# Altium footprint library MyLibrary.PcbLib: 365 footprints (part 22 of 23)
Each footprint in its own frame and in the unit in brackets; x right, y up, seen from the top. Pads: shape width x height; smd on the part's side, far side on the other; paste and mask are expansions set on the pad; w line width, h text height; cw(c..) or ccw(c..) is an arc to the next point about the centre after c.
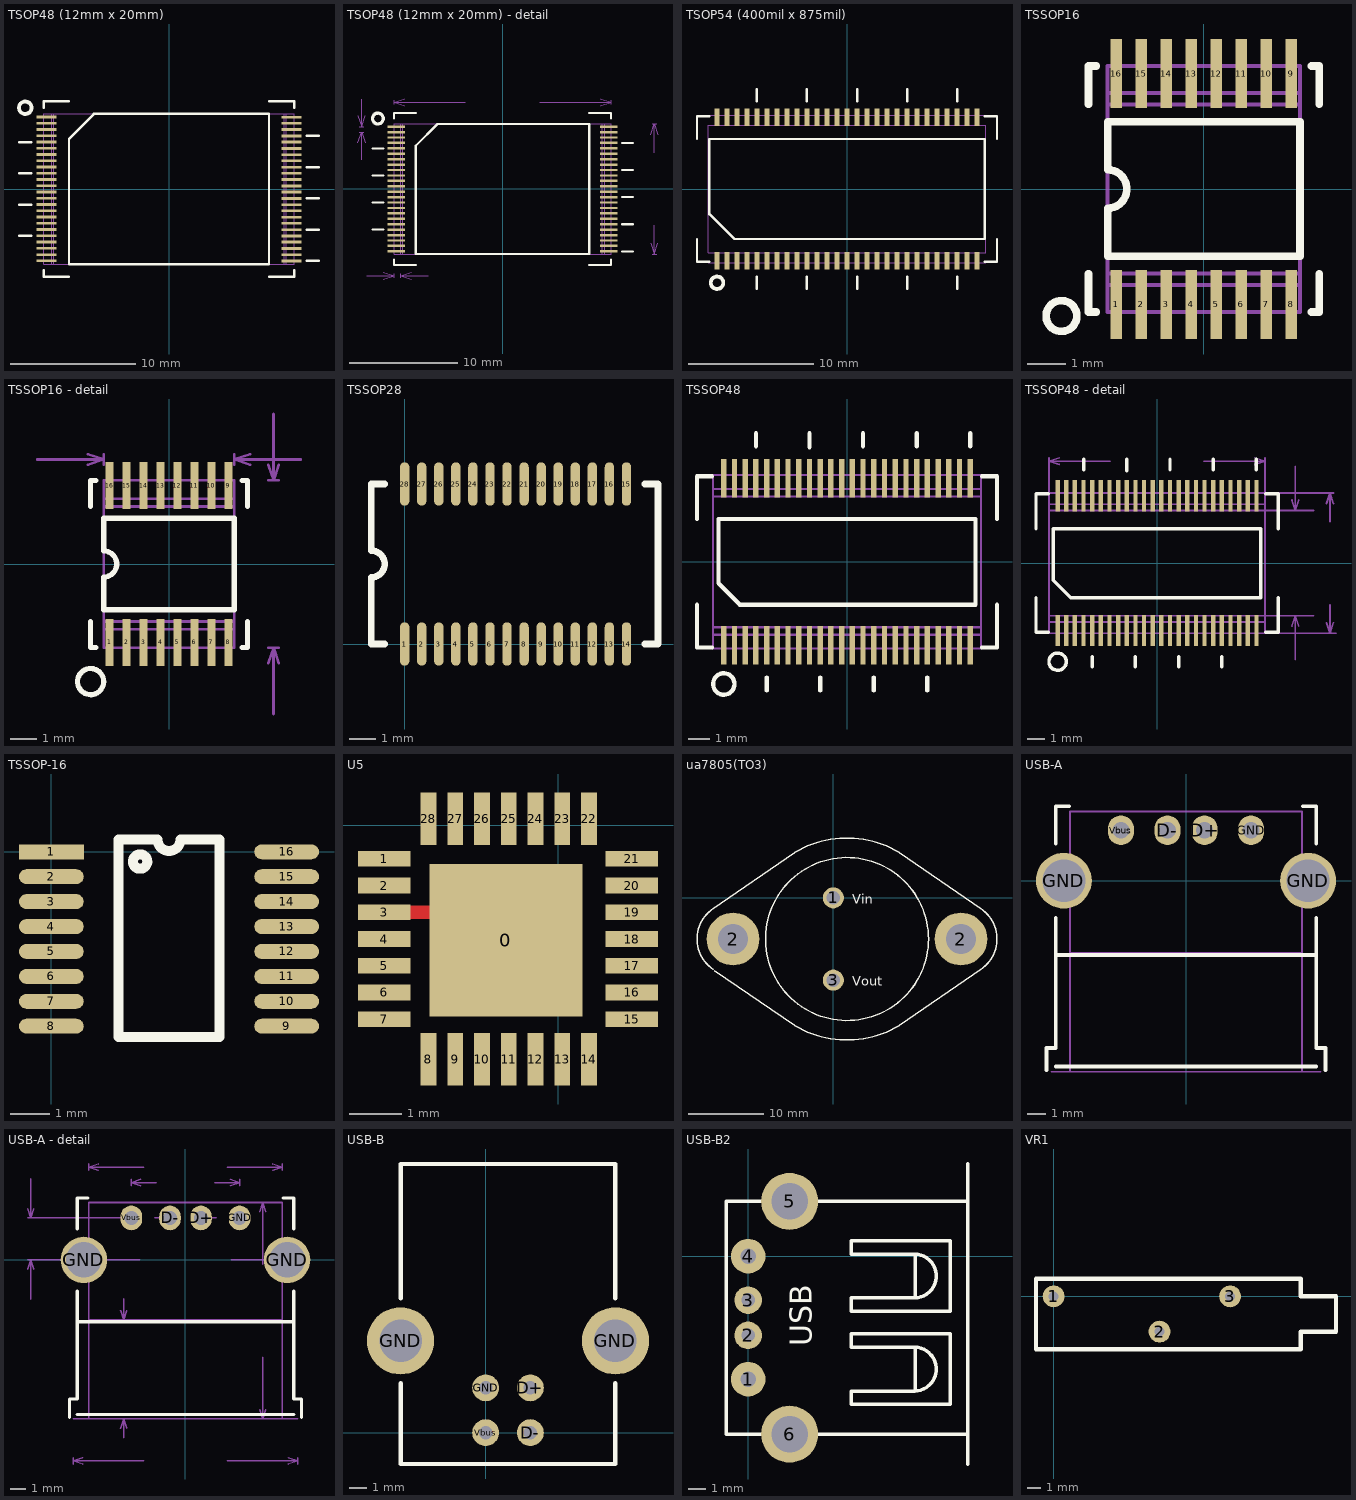
[diagram p21: the footprints below, top view; thin cyan lines are the x and y axes]

## TSOP48 (12mm x 20mm) [mm]
pads (48):
  rect 1.6x0.22 smd: 1(-9.8,5.75) 2(-9.8,5.25) 3(-9.8,4.75) 4(-9.8,4.25) 5(-9.8,3.75) 6(-9.8,3.25) 7(-9.8,2.75) 8(-9.8,2.25) 9(-9.8,1.75) 10(-9.8,1.25) 11(-9.8,0.75) 12(-9.8,0.25) 13(-9.8,-0.25) 14(-9.8,-0.75) 15(-9.8,-1.25) 16(-9.8,-1.75) 17(-9.8,-2.25) 18(-9.8,-2.75) 19(-9.8,-3.25) 20(-9.8,-3.75) 21(-9.8,-4.25) 22(-9.8,-4.75) 23(-9.8,-5.25) 24(-9.8,-5.75) 25(9.8,-5.75) 26(9.8,-5.25) 27(9.8,-4.75) 28(9.8,-4.25) 29(9.8,-3.75) 30(9.8,-3.25) 31(9.8,-2.75) 32(9.8,-2.25) 33(9.8,-1.75) 34(9.8,-1.25) 35(9.8,-0.75) 36(9.8,-0.25) 37(9.8,0.25) 38(9.8,0.75) 39(9.8,1.25) 40(9.8,1.75) 41(9.8,2.25) 42(9.8,2.75) 43(9.8,3.25) 44(9.8,3.75) 45(9.8,4.25) 46(9.8,4.75) 47(9.8,5.25) 48(9.8,5.75)
Top Overlay:
  circle w0.3: c-11.5,6.5 r0.5
  lines w0.2: -12,-3.75 -11,-3.75 ; -12,-1.25 -11,-1.25 ; -12,1.25 -11,1.25 ; -12,3.75 -11,3.75 ; -10,-6.5 -10,-7 -8,-7 ; -10,6.5 -10,7 -8,7 ; 8,-7 10,-7 10,-6.5 ; 8,7 10,7 10,6.5 ; 11,-5.75 12,-5.75 ; 11,-3.25 12,-3.25 ; 11,-0.75 12,-0.75 ; 11,1.75 12,1.75 ; 11,4.25 12,4.25 ; -8,4 -8,-6 8,-6 8,6 -6,6 -8,4 ; -8,4 -8,4
Mechanical 1:
  lines w0.1: -9.4,-6 -9.4,6 ; -9.2,-6 -9.2,6 ; 9.2,-6 9.2,6 ; 9.4,-6 9.4,6 ; -10,-6 -10,6 10,6 10,-6 -10,-6

## TSOP48 (12mm x 20mm) - detail [mm]
pads (48):
  rect 1.6x0.22 smd: 1(-9.8,5.75) 2(-9.8,5.25) 3(-9.8,4.75) 4(-9.8,4.25) 5(-9.8,3.75) 6(-9.8,3.25) 7(-9.8,2.75) 8(-9.8,2.25) 9(-9.8,1.75) 10(-9.8,1.25) 11(-9.8,0.75) 12(-9.8,0.25) 13(-9.8,-0.25) 14(-9.8,-0.75) 15(-9.8,-1.25) 16(-9.8,-1.75) 17(-9.8,-2.25) 18(-9.8,-2.75) 19(-9.8,-3.25) 20(-9.8,-3.75) 21(-9.8,-4.25) 22(-9.8,-4.75) 23(-9.8,-5.25) 24(-9.8,-5.75) 25(9.8,-5.75) 26(9.8,-5.25) 27(9.8,-4.75) 28(9.8,-4.25) 29(9.8,-3.75) 30(9.8,-3.25) 31(9.8,-2.75) 32(9.8,-2.25) 33(9.8,-1.75) 34(9.8,-1.25) 35(9.8,-0.75) 36(9.8,-0.25) 37(9.8,0.25) 38(9.8,0.75) 39(9.8,1.25) 40(9.8,1.75) 41(9.8,2.25) 42(9.8,2.75) 43(9.8,3.25) 44(9.8,3.75) 45(9.8,4.25) 46(9.8,4.75) 47(9.8,5.25) 48(9.8,5.75)
Top Overlay:
  circle w0.3: c-11.5,6.5 r0.5
  lines w0.2: -12,-3.75 -11,-3.75 ; -12,-1.25 -11,-1.25 ; -12,1.25 -11,1.25 ; -12,3.75 -11,3.75 ; -10,-6.5 -10,-7 -8,-7 ; -10,6.5 -10,7 -8,7 ; 8,-7 10,-7 10,-6.5 ; 8,7 10,7 10,6.5 ; 11,-5.75 12,-5.75 ; 11,-3.25 12,-3.25 ; 11,-0.75 12,-0.75 ; 11,1.75 12,1.75 ; 11,4.25 12,4.25 ; -8,4 -6,6 8,6 8,-6 -8,-6 -8,4 ; -8,4 -8,4
Mechanical 1:
  lines w0.1: -13.333,4.25 -13,5.25 ; -13.333,6.75 -13,5.75 ; -13.2,5.25 -12.8,5.25 ; -13.2,5.75 -12.8,5.75 ; -13,2.71 -13,5.25 ; -13,8.29 -13,5.75 ; -12.667,4.25 -13,5.25 ; -12.667,6.75 -13,5.75 ; -12.54,-8 -10,-8 ; -11,-8.333 -10,-8 ; -11,-7.667 -10,-8 ; -10,-8.2 -10,-7.8 ; -10,7.8 -10,8.2 ; -9.4,-8.2 -9.4,-7.8 ; -9.4,-6 -9.4,6 ; -9.2,-6 -9.2,6 ; -9,7.667 -10,8 ; -9,8.333 -10,8 ; -8.4,-8.333 -9.4,-8 ; -8.4,-7.667 -9.4,-8 ; -6.86,-8 -9.4,-8 ; -3.436,8 -10,8 ; 3.436,8 10,8 ; 9,7.667 10,8 ; 9,8.333 10,8 ; 9.2,-6 9.2,6 ; 9.4,-6 9.4,6 ; 10,7.8 10,8.2 ; 13.667,-5 14,-6 ; 13.667,5 14,6 ; 13.8,-6 14.2,-6 ; 13.8,6 14.2,6 ; 14,-3.353 14,-6 ; 14,3.353 14,6 ; 14.333,-5 14,-6 ; 14.333,5 14,6 ; -10,-6 10,-6 10,6 -10,6 -10,-6
  text "0.5 (mm)" at -13.95,2.025 h1
  text "20 (mm)" at -3.182,7.4 h1
  text "12 (mm)" at 14.6,-3.099 h1
  text "0.6 (mm)" at -13.299,-10.399 h1

## TSOP54 (400mil x 875mil) [mm]
pads (54):
  rect 0.37x1.4 smd: 1(-10.4,-5.73) 2(-9.6,-5.73) 3(-8.8,-5.73) 4(-8,-5.73) 5(-7.2,-5.73) 6(-6.4,-5.73) 7(-5.6,-5.73) 8(-4.8,-5.73) 9(-4,-5.73) 10(-3.2,-5.73) 11(-2.4,-5.73) 12(-1.6,-5.73) 13(-0.8,-5.73) 14(0,-5.73) 15(0.8,-5.73) 16(1.6,-5.73) 17(2.4,-5.73) 18(3.2,-5.73) 19(4,-5.73) 20(4.8,-5.73) 21(5.6,-5.73) 22(6.4,-5.73) 23(7.2,-5.73) 24(8,-5.73) 25(8.8,-5.73) 26(9.6,-5.73) 27(10.4,-5.73) 28(10.4,5.73) 29(9.6,5.73) 30(8.8,5.73) 31(8,5.73) 32(7.2,5.73) 33(6.4,5.73) 34(5.6,5.73) 35(4.8,5.73) 36(4,5.73) 37(3.2,5.73) 38(2.4,5.73) 39(1.6,5.73) 40(0.8,5.73) 41(0,5.73) 42(-0.8,5.73) 43(-1.6,5.73) 44(-2.4,5.73) 45(-3.2,5.73) 46(-4,5.73) 47(-4.8,5.73) 48(-5.6,5.73) 49(-6.4,5.73) 50(-7.2,5.73) 51(-8,5.73) 52(-8.8,5.73) 53(-9.6,5.73) 54(-10.4,5.73)
Top Overlay:
  circle w0.3: c-10.4,-7.5 r0.5
  lines w0.2: -12,-4 -12,-5.8 -11,-5.8 ; -12,4 -12,5.8 -11,5.8 ; -7.2,-8 -7.2,-7 ; -7.2,7 -7.2,8 ; -3.2,-8 -3.2,-7 ; -3.2,7 -3.2,8 ; 0.8,-8 0.8,-7 ; 0.8,7 0.8,8 ; 4.8,-8 4.8,-7 ; 4.8,7 4.8,8 ; 8.8,-8 8.8,-7 ; 8.8,7 8.8,8 ; 11,-5.8 12,-5.8 12,-4 ; 11,5.8 12,5.8 12,4 ; -11,-2 -11,4 11,4 11,-4 -9,-4 -11,-2 ; -11,-2 -11,-2
Mechanical 1:
  lines w0.1: -11.11,-5.88 11.11,-5.88 ; -11.11,5.88 11.11,5.88 ; -11.11,-5.08 11.11,-5.08 11.11,5.08 -11.11,5.08 -11.11,-5.08

## TSSOP16 [mm]
pads (16):
  rect 0.3x1.8 smd: 1(-2.275,-3) 2(-1.625,-3) 3(-0.975,-3) 4(-0.325,-3) 5(0.325,-3) 6(0.975,-3) 7(1.625,-3) 8(2.275,-3) 9(2.275,3) 10(1.625,3) 11(0.975,3) 12(0.325,3) 13(-0.325,3) 14(-0.975,3) 15(-1.625,3) 16(-2.275,3)
Top Overlay:
  circle w0.2: c-3.702,-3.302 r0.4
  lines w0.2: -3,-2.2 -3,-3.2 -2.8,-3.2 ; -3,2.2 -3,3.2 -2.8,3.2 ; 2.8,-3.2 3,-3.2 3,-2.2 ; 2.8,3.2 3,3.2 3,2.2 ; -2.5,-1.75 2.5,-1.75 2.5,1.75 -2.5,1.75 -2.5,0.5 cw(c-2.5,0) -2.5,-0.5 -2.5,-1.75
Mechanical 1:
  lines w0.1: -2.5,-2.5 2.5,-2.5 ; -2.5,-2.2 2.5,-2.2 ; -2.5,2.2 2.5,2.2 ; -2.5,2.5 2.5,2.5 ; -2.5,-3.2 -2.5,3.2 2.5,3.2 2.5,-3.2 -2.5,-3.2

## TSSOP16 - detail [mm]
pads (16):
  rect 0.3x1.8 smd: 1(-2.275,-3) 2(-1.625,-3) 3(-0.975,-3) 4(-0.325,-3) 5(0.325,-3) 6(0.975,-3) 7(1.625,-3) 8(2.275,-3) 9(2.275,3) 10(1.625,3) 11(0.975,3) 12(0.325,3) 13(-0.325,3) 14(-0.975,3) 15(-1.625,3) 16(-2.275,3)
Top Overlay:
  circle w0.2: c-3,-4.5 r0.5
  lines w0.2: -3,-2.2 -3,-3.2 -2.8,-3.2 ; -3,2.2 -3,3.2 -2.8,3.2 ; 2.8,-3.2 3,-3.2 3,-2.2 ; 2.8,3.2 3,3.2 3,2.2 ; -2.5,-1.75 2.5,-1.75 2.5,1.75 -2.5,1.75 -2.5,0.5 cw(c-2.5,0) -2.5,-0.5 -2.5,-1.75
Mechanical 1:
  lines w0.1: -5.04,4 -2.5,4 ; -3.1,3.8 -2.5,4 ; -3.1,4.2 -2.5,4 ; -2.5,-2.5 2.5,-2.5 ; -2.5,-2.2 2.5,-2.2 ; -2.5,2.2 2.5,2.2 ; -2.5,2.5 2.5,2.5 ; -2.5,3.8 -2.5,4.2 ; 2.5,3.8 2.5,4.2 ; 3.1,3.8 2.5,4 ; 3.1,4.2 2.5,4 ; 3.8,-3.8 4,-3.2 ; 3.8,-3.2 4.2,-3.2 ; 3.8,3.2 4.2,3.2 ; 3.8,3.8 4,3.2 ; 4,-5.74 4,-3.2 ; 4,5.74 4,3.2 ; 4.2,-3.8 4,-3.2 ; 4.2,3.8 4,3.2 ; 5.04,4 2.5,4 ; -2.5,-3.2 -2.5,3.2 2.5,3.2 2.5,-3.2 -2.5,-3.2
  text "5 (mm)" at -1.6,3.9 h0.6
  text "6.4 (mm)" at 4.3,-2.1 h0.6

## TSSOP28 [mil]
pads (28):
  oval 14x65 smd: 1(0,0) 2(25.59,0) 3(51.18,0) 4(76.77,0) 5(102.36,0) 6(127.95,0) 7(153.54,0) 8(179.13,0) 9(204.72,0) 10(230.31,0) 11(255.91,0) 12(281.5,0) 13(307.09,0) 14(332.68,0) 15(332.68,240) 16(307.09,240) 17(281.5,240) 18(255.91,240) 19(230.31,240) 20(204.72,240) 21(179.13,240) 22(153.54,240) 23(127.95,240) 24(102.36,240) 25(76.77,240) 26(51.18,240) 27(25.59,240) 28(0,240)
Top Overlay:
  lines w10: -30,0 -50,0 -50,100 ccw(c-50,120) -50,140 -50,240 -30,240 ; 360,0 380,0 380,240 360,240

## TSSOP48 [mm]
pads (48):
  rect 0.25x1.8 smd: 1(-5.75,-3.9) 2(-5.25,-3.9) 3(-4.75,-3.9) 4(-4.25,-3.9) 5(-3.75,-3.9) 6(-3.25,-3.9) 7(-2.75,-3.9) 8(-2.25,-3.9) 9(-1.75,-3.9) 10(-1.25,-3.9) 11(-0.75,-3.9) 12(-0.25,-3.9) 13(0.25,-3.9) 14(0.75,-3.9) 15(1.25,-3.9) 16(1.75,-3.9) 17(2.25,-3.9) 18(2.75,-3.9) 19(3.25,-3.9) 20(3.75,-3.9) 21(4.25,-3.9) 22(4.75,-3.9) 23(5.25,-3.9) 24(5.75,-3.9) 25(5.75,3.9) 26(5.25,3.9) 27(4.75,3.9) 28(4.25,3.9) 29(3.75,3.9) 30(3.25,3.9) 31(2.75,3.9) 32(2.25,3.9) 33(1.75,3.9) 34(1.25,3.9) 35(0.75,3.9) 36(0.25,3.9) 37(-0.25,3.9) 38(-0.75,3.9) 39(-1.25,3.9) 40(-1.75,3.9) 41(-2.25,3.9) 42(-2.75,3.9) 43(-3.25,3.9) 44(-3.75,3.9) 45(-4.25,3.9) 46(-4.75,3.9) 47(-5.25,3.9) 48(-5.75,3.9)
Top Overlay:
  circle w0.2: c-5.75,-5.7 r0.5
  lines w0.2: -7,-2 -7,-4 -6.3,-4 ; -7,2 -7,4 -6.3,4 ; -4.25,5.4 -4.25,6 ; -3.75,-6 -3.75,-5.4 ; -1.75,5.35 -1.75,6 ; -1.25,-6 -1.25,-5.4 ; 0.75,5.4 0.75,6 ; 1.25,-6 1.25,-5.4 ; 3.25,5.4 3.25,6 ; 3.75,-6 3.75,-5.4 ; 5.75,5.4 5.75,6 ; 6.3,-4 7,-4 7,-2 ; 6.3,4 7,4 7,2 ; -6,-1 -6,2 6,2 6,-2 -5,-2 -6,-1
Mechanical 1:
  lines w0.1: -6.25,-3.4 6.25,-3.4 ; -6.25,-3.05 6.25,-3.05 ; -6.25,3.05 6.25,3.05 ; -6.25,3.4 6.25,3.4 ; -6.25,-4.05 -6.25,4.05 6.25,4.05 6.25,-4.05 -6.25,-4.05

## TSSOP48 - detail [mm]
pads (48):
  rect 0.25x1.8 smd: 1(-5.75,-3.9) 2(-5.25,-3.9) 3(-4.75,-3.9) 4(-4.25,-3.9) 5(-3.75,-3.9) 6(-3.25,-3.9) 7(-2.75,-3.9) 8(-2.25,-3.9) 9(-1.75,-3.9) 10(-1.25,-3.9) 11(-0.75,-3.9) 12(-0.25,-3.9) 13(0.25,-3.9) 14(0.75,-3.9) 15(1.25,-3.9) 16(1.75,-3.9) 17(2.25,-3.9) 18(2.75,-3.9) 19(3.25,-3.9) 20(3.75,-3.9) 21(4.25,-3.9) 22(4.75,-3.9) 23(5.25,-3.9) 24(5.75,-3.9) 25(5.75,3.9) 26(5.25,3.9) 27(4.75,3.9) 28(4.25,3.9) 29(3.75,3.9) 30(3.25,3.9) 31(2.75,3.9) 32(2.25,3.9) 33(1.75,3.9) 34(1.25,3.9) 35(0.75,3.9) 36(0.25,3.9) 37(-0.25,3.9) 38(-0.75,3.9) 39(-1.25,3.9) 40(-1.75,3.9) 41(-2.25,3.9) 42(-2.75,3.9) 43(-3.25,3.9) 44(-3.75,3.9) 45(-4.25,3.9) 46(-4.75,3.9) 47(-5.25,3.9) 48(-5.75,3.9)
Top Overlay:
  circle w0.2: c-5.75,-5.7 r0.5
  lines w0.2: -7,-2 -7,-4 -6.3,-4 ; -7,2 -7,4 -6.3,4 ; -4.25,5.4 -4.25,6 ; -3.75,-6 -3.75,-5.4 ; -1.75,5.35 -1.75,6 ; -1.25,-6 -1.25,-5.4 ; 0.75,5.4 0.75,6 ; 1.25,-6 1.25,-5.4 ; 3.25,5.4 3.25,6 ; 3.75,-6 3.75,-5.4 ; 5.75,5.4 5.75,6 ; 6.3,-4 7,-4 7,-2 ; 6.3,4 7,4 7,2 ; -6,-1 -6,2 6,2 6,-2 -5,-2 -6,-1
Mechanical 1:
  lines w0.1: -6.25,-3.4 6.25,-3.4 ; -6.25,-3.05 6.25,-3.05 9.05,-3.05 ; -6.25,3.05 6.25,3.05 9.05,3.05 ; -6.25,3.4 6.25,3.4 ; -6.25,5.7 -6.25,6.1 ; -6.25,6.05 -6.25,4.05 ; -5.65,5.7 -6.25,5.9 ; -5.65,6.1 -6.25,5.9 ; -2.703,5.9 -6.25,5.9 ; 2.703,5.9 6.25,5.9 ; 5.65,5.7 6.25,5.9 ; 5.65,6.1 6.25,5.9 ; 6.25,5.7 6.25,6.1 ; 6.25,6.05 6.25,4.05 ; 7.8,-3.65 8,-3.05 ; 7.8,-3.05 8.2,-3.05 ; 7.8,3.05 8.2,3.05 ; 7.8,3.65 8,3.05 ; 8,-5.59 8,-3.05 ; 8,5.59 8,3.05 ; 8.2,-3.65 8,-3.05 ; 8.2,3.65 8,3.05 ; 9.8,-4.05 10.2,-4.05 ; 9.8,-3.45 10,-4.05 ; 9.8,3.45 10,4.05 ; 9.8,4.05 10.2,4.05 ; 10,-2.403 10,-4.05 ; 10,2.403 10,4.05 ; 10.15,4.05 6.25,4.05 ; 10.2,-3.45 10,-4.05 ; 10.2,3.45 10,4.05 ; 10.35,-4.05 6.25,-4.05 ; -6.25,4.05 6.25,4.05 ; -6.25,4.05 -6.25,-4.05 6.25,-4.05 ; 6.25,-4.05 6.25,4.05
  text "6.1 (mm)" at 8.2,-2 h0.6
  text "12.5 (mm)" at -2.449,5.5 h0.6
  text "8.1 (mm)" at 10.4,-2.149 h0.6

## TSSOP-16 [mil]
pads (16):
  rect 65x15 smd: 1(0,0)
  oval 65x15 smd: 2(0,-25) 3(0,-50) 4(0,-75) 5(0,-100) 6(0,-125) 7(0,-150) 8(0,-175) 9(236,-175) 10(236,-150) 11(236,-125) 12(236,-100) 13(236,-75) 14(236,-50) 15(236,-25) 16(236,0)
Top Overlay:
  lines w10: 89,-17 cw(c89,-9.79) 90.02,-16.93 ; 67.5,-186 67.5,12.5 106.46,12.5 ccw(c118,12.5) 129.54,12.5 168.5,12.5 168.5,-186 67.5,-186

## U5 [mm]
pads (29):
  rect 2.9x2.9 smd: 0(-0.991,-2.184)
  rect 1x0.3 smd: 1(-3.302,-0.635) 2(-3.302,-1.143) 3(-3.302,-1.651) 4(-3.302,-2.159) 5(-3.302,-2.667) 6(-3.302,-3.175) 7(-3.302,-3.683) 15(1.397,-3.683) 16(1.397,-3.175) 17(1.397,-2.667) 18(1.397,-2.159) 19(1.397,-1.651) 20(1.397,-1.143) 21(1.397,-0.635)
  rect 0.3x1 smd: 8(-2.464,-4.445) 9(-1.956,-4.445) 10(-1.448,-4.445) 11(-0.94,-4.445) 12(-0.432,-4.445) 13(0.076,-4.445) 14(0.584,-4.445) 22(0.584,0.127) 23(0.076,0.127) 24(-0.432,0.127) 25(-0.94,0.127) 26(-1.448,0.127) 27(-1.956,0.127) 28(-2.464,0.127)
Top Layer:
  rectangle: -3.048,-1.778 -2.286,-1.524

## ua7805(TO3) [mil]
pads (4):
  round 110 hole 70: 1(0,0) 3(0,-430)
  round 275.59 hole 157.48: 2(-523.5,-215) 2(666.5,-215)
Top Overlay:
  circle w7.87: c71.5,-215 r425.69
  lines w7.87: -628.5,-56.67 -203.5,235 ; -627.34,-373.9 cw(c-520.17,-215) -627.34,-56.1 ; -620.17,-381.67 -203.5,-665 ; -200.18,-667.16 ccw(c71.5,-215) 343.18,-667.16 ; -200.18,237.16 cw(c71.5,-215) 343.18,237.16 ; 346.5,-665 771.5,-373.33 ; 346.5,235 771.5,-56.67 ; 770.34,-373.9 ccw(c663.17,-215) 770.34,-56.1
  text "Vout" at 100,-460 h50
  text "Vin" at 100,-30 h50

## USB-A [mm]
pads (6):
  oval 1.4x1.6 hole 0.9: D+(1,2.71) D-(-1,2.71) GND(3.5,2.71) Vbus(-3.5,2.71)
  round 3 hole 2.3: GND(-6.57,0) GND(6.57,0)
Top Overlay:
  lines w0.2: -7.5,-10.2 -7.5,-9 -7,-9 -7,-2 ; -7,-10 7,-10 ; -7,-4 7,-4 ; -7,2 -7,4 -6.3,4 ; 6.3,4 7,4 7,2 ; 7,-2 7,-9 7.5,-9 7.5,-10.2
Mechanical 1:
  lines w0.1: -7.25,-10.28 7.25,-10.28 ; -6.25,-10.28 -6.25,3.71 6.25,3.71 6.25,-10.28 ; -6.25,-3.88 6.25,-3.88

## USB-A - detail [mm]
pads (6):
  oval 1.4x1.6 hole 0.9: D+(1,2.71) D-(-1,2.71) GND(3.5,2.71) Vbus(-3.5,2.71)
  round 3 hole 2.3: GND(-6.57,0) GND(6.57,0)
Top Overlay:
  lines w0.2: -7.5,-10.2 -7.5,-9 -7,-9 -7,-2 ; -7,-10 7,-10 ; -7,-4 7,-4 ; -7,2 -7,4 -6.3,4 ; 6.3,4 7,4 7,2 ; 7,-2 7,-9 7.5,-9 7.5,-10.2
Mechanical 1:
  lines w0.1: -10.2,-0.6 -10,0 ; -10.2,0 -9.8,0 ; -10.2,2.71 -9.8,2.71 ; -10.2,3.31 -10,2.71 ; -10,-2.54 -10,0 ; -10,5.25 -10,2.71 ; -9.8,-0.6 -10,0 ; -9.8,3.31 -10,2.71 ; -7.25,-13.2 -7.25,-12.8 ; -7.25,-10.28 7.25,-10.28 ; -6.65,-13.2 -7.25,-13 ; -6.65,-12.8 -7.25,-13 ; -6.57,-0.2 -6.57,0.2 ; -6.25,-10.28 -6.25,3.71 6.25,3.71 6.25,-10.28 ; -6.25,-3.88 6.25,-3.88 ; -6.25,5.8 -6.25,6.2 ; -5.97,-0.2 -6.57,0 ; -5.97,0.2 -6.57,0 ; -5.65,5.8 -6.25,6 ; -5.65,6.2 -6.25,6 ; -4.2,-10.88 -4,-10.28 ; -4.2,-10.28 -3.8,-10.28 ; -4.2,-3.88 -3.8,-3.88 ; -4.2,-3.28 -4,-3.88 ; -4,-11.5 -4,-10.28 ; -4,-2.5 -4,-3.88 ; -3.8,-10.88 -4,-10.28 ; -3.8,-3.28 -4,-3.88 ; -3.5,2.71 -10,2.71 ; -3.5,4.8 -3.5,5.2 ; -2.953,0 -6.57,0 ; -2.9,4.8 -3.5,5 ; -2.9,5.2 -3.5,5 ; -2.703,-13 -7.25,-13 ; -2.703,6 -6.25,6 ; -2,2.71 -1,2.71 ; -1.903,5 -3.5,5 ; -1.6,2.51 -1,2.71 ; -1.6,2.91 -1,2.71 ; -1,2.51 -1,2.91 ; 1,2.51 1,2.91 ; 1.6,2.51 1,2.71 ; 1.6,2.91 1,2.71 ; 1.903,5 3.5,5 ; 2,2.71 1,2.71 ; 2.703,-13 7.25,-13 ; 2.703,6 6.25,6 ; 2.9,4.8 3.5,5 ; 2.9,5.2 3.5,5 ; 2.953,0 6.57,0 ; 3.5,4.8 3.5,5.2 ; 4.8,-10.28 5.2,-10.28 ; 4.8,-9.68 5,-10.28 ; 4.8,3.11 5,3.71 ; 4.8,3.71 5.2,3.71 ; 5,-6.288 5,-10.28 ; 5,-0.282 5,3.71 ; 5.2,-9.68 5,-10.28 ; 5.2,3.11 5,3.71 ; 5.65,5.8 6.25,6 ; 5.65,6.2 6.25,6 ; 5.97,-0.2 6.57,0 ; 5.97,0.2 6.57,0 ; 6.25,5.8 6.25,6.2 ; 6.57,-0.2 6.57,0.2 ; 6.65,-13.2 7.25,-13 ; 6.65,-12.8 7.25,-13 ; 7.25,-13.2 7.25,-12.8 ; -10,0 -6.57,0
  text "14.5 (mm)" at -2.449,-13.4 h0.6
  text "12.5 (mm)" at -2.449,5.6 h0.6
  text "13.99 (mm)" at 5.4,-6.034 h0.6
  text "6.4 (mm)" at -3.725,-9.2 h0.6
  text "7 (mm)" at -1.649,4.6 h0.6
  text "2 (mm)" at -1.649,1.11 h0.6
  text "13.14 (mm)" at -2.699,-0.4 h0.6
  text "2.71 (mm)" at -10.9,-0.95 h0.6

## USB-B [mil]
pads (6):
  round 60 hole 30: D+(100,100) D-(100,0) GND(0,100) Vbus(0,0)
  round 150 hole 95: GND(-190,205) GND(290,205)
Top Overlay:
  lines w10: -190,110 -190,-70 0,-70 290,-70 290,110 ; -190,300 -190,600 290,600 290,300

## USB-B2 [mil]
pads (6):
  round 78.74 hole 35.43: 1(0,-280) 4(0,0)
  round 62.99 hole 31.5: 2(0,-180) 3(0,-100)
  round 129.92 hole 82.68: 5(94.49,125) 6(94.49,-405)
Top Overlay:
  lines w8: 380,-305 380,-209 ; 380,-93 380,3 ; 500,-473 500,210 ; 500,-405 -50,-405 -50,125 500,125 ; 235,-337 235,-307 378.79,-307 ccw(c378.26,-257) 378.79,-206.99 235,-207 235,-177 460,-177 460,-337 235,-337 ; 235,-125 235,-95 378.79,-95 ccw(c378.26,-44.99) 378.79,5.01 235,5 235,35 460,35 460,-125 235,-125
  text "USB" at 145,-205 h50

## VR1 [mil]
pads (3):
  round 62 hole 28: 1(0,0) 2(300,-100) 3(500,0)
Top Overlay:
  lines w12: -50,-150 -50,50 700,50 700,0 800,0 800,-100 700,-100 700,-150 -50,-150